# Altium integrated library NSC Switcher.IntLib: 867 symbols (part 11 of 21)
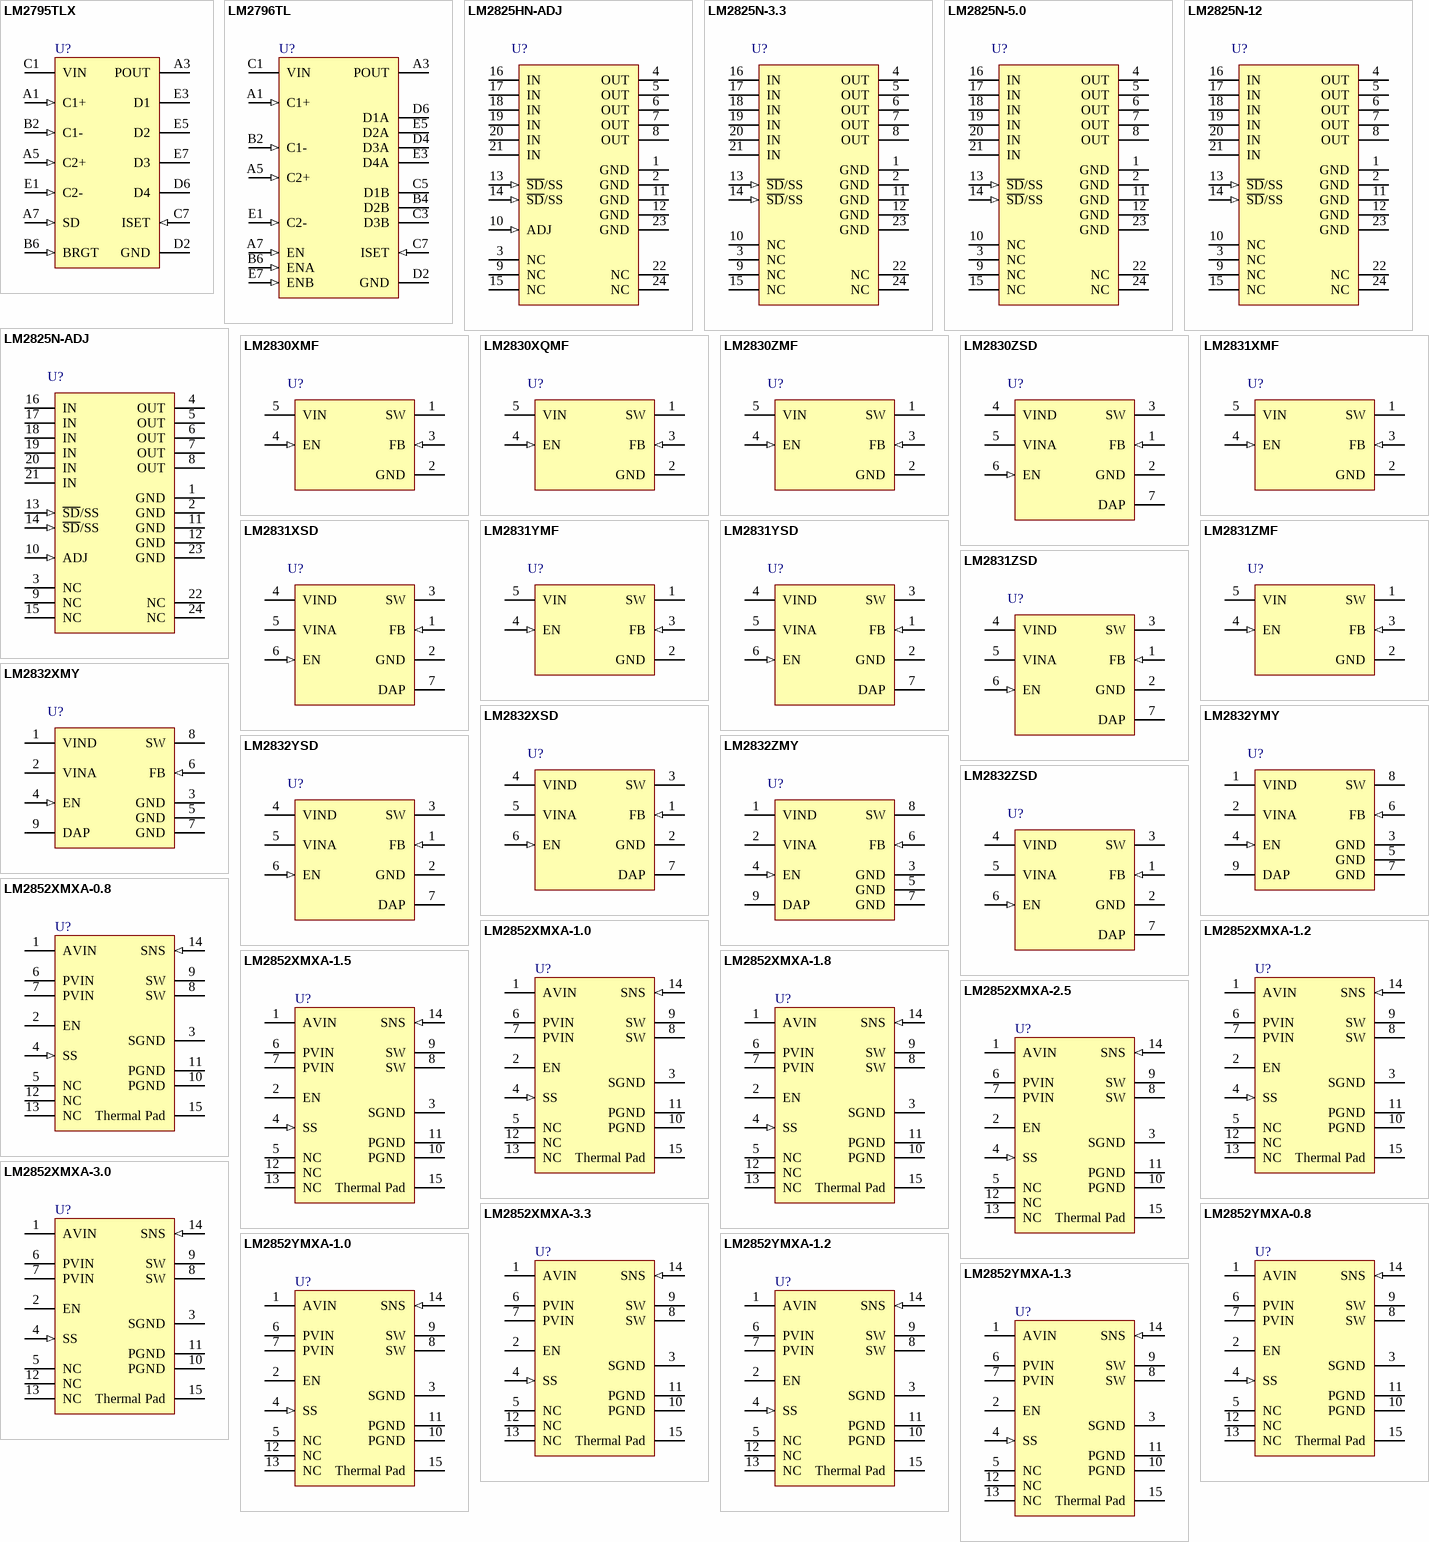
[diagram p36: symbols LM2795TLX to LM2852YMXA-1.3]

## LM2831XSD
designator U?
High Frequency 1.5A Load - Step-Down DC-DC Regulator; PartNumber: LM2831XSD; Manufacturer: National Semiconductor; CompType: Switcher; PackageTopMarking: ZXYTT*L193B; Published: 4-Dec-2008; PackageVersion: revA, Jul-2003; PackageReference: SDE06A; Publisher: Altium Limited; PackageDescription: LLP, Plastic, Dual, 3 x 3 x 0.8mm Body, 6 Lead, 0.95mm Pitch, No Pullback; RoHS: Y; PinCount: 6; DigiKeyPartNumber: LM2831XSDCT-ND; ComponentLink1Description: LM2831 Datasheet; ComponentLink1URL: http://www.national.com/ds/LM/LM2831.pdf; ComponentLink2Description: LM2831 Web Page; ComponentLink2URL: http://www.national.com/pf/LM/LM2831.html; ComponentLink3Description: SDE06A Package Page; ComponentLink3URL: http://www.national.com/packaging/folders/sde06a.html
footprint SDE06A_full (SON, 6-Leads, Body 3x3 mm, Pitch 0.95mm, Full Paste, NSC Recommended)
footprint SDE06A_quad (SON, 6-Leads, Body 3x3 mm, Pitch 0.95mm, Quad Paste, NSC Recommended)
pins: 1 FB (in), 2 GND (power), 3 SW (power), 4 VIND (power), 5 VINA (power), 6 EN (in), 7 DAP

## LM2831YMF
designator U?
High Frequency 1.5A Load - Step-Down DC-DC Regulator; PartNumber: LM2831YMF; Manufacturer: National Semiconductor; CompType: Switcher; PackageTopMarking: SKZB*XTT; Published: 4-Dec-2008; PackageVersion: revD, Aug-2008; PackageReference: MF05A; Publisher: Altium Limited; PackageDescription: Molded SOT-23, .115 x .063 x .040 in Body, 5 Lead, .0375 in Pitch; RoHS: Y; PinCount: 5; DigiKeyPartNumber: LM2831YMFCT-ND; Code_IPC: SOT23-5; ComponentLink1Description: LM2831 Datasheet; ComponentLink1URL: http://www.national.com/ds/LM/LM2831.pdf; ComponentLink2Description: LM2831 Web Page; ComponentLink2URL: http://www.national.com/pf/LM/LM2831.html; ComponentLink3Description: MF05A Package Page; ComponentLink3URL: http://www.national.com/packaging/folders/mf05a.html
footprint MF05A_N (SOT23, 5-Leads, Body 2.9x1.6mm, Pitch 0.95mm, Lead Span 2.8mm, IPC Medium Density)
footprint MF05A_L (SOT23, 5-Leads, Body 2.9x1.6mm, Pitch 0.95mm, Lead Span 2.8mm, IPC High Density)
footprint MF05A_M (SOT23, 5-Leads, Body 2.9x1.6mm, Pitch 0.95mm, Lead Span 2.8mm, IPC Low Density)
pins: 1 SW (power), 2 GND (power), 3 FB (in), 4 EN (in), 5 VIN (power)

## LM2831YSD
designator U?
High Frequency 1.5A Load - Step-Down DC-DC Regulator; PartNumber: LM2831YSD; Manufacturer: National Semiconductor; CompType: Switcher; PackageTopMarking: ZXYTT*L194B; Published: 4-Dec-2008; PackageVersion: revA, Jul-2003; PackageReference: SDE06A; Publisher: Altium Limited; PackageDescription: LLP, Plastic, Dual, 3 x 3 x 0.8mm Body, 6 Lead, 0.95mm Pitch, No Pullback; RoHS: Y; PinCount: 6; DigiKeyPartNumber: LM2831YSDCT-ND; ComponentLink1Description: LM2831 Datasheet; ComponentLink1URL: http://www.national.com/ds/LM/LM2831.pdf; ComponentLink2Description: LM2831 Web Page; ComponentLink2URL: http://www.national.com/pf/LM/LM2831.html; ComponentLink3Description: SDE06A Package Page; ComponentLink3URL: http://www.national.com/packaging/folders/sde06a.html
footprint SDE06A_full (SON, 6-Leads, Body 3x3 mm, Pitch 0.95mm, Full Paste, NSC Recommended)
footprint SDE06A_quad (SON, 6-Leads, Body 3x3 mm, Pitch 0.95mm, Quad Paste, NSC Recommended)
pins: 1 FB (in), 2 GND (power), 3 SW (power), 4 VIND (power), 5 VINA (power), 6 EN (in), 7 DAP

## LM2831ZMF
designator U?
High Frequency 1.5A Load - Step-Down DC-DC Regulator; PartNumber: LM2831ZMF; Manufacturer: National Semiconductor; CompType: Switcher; PackageTopMarking: SLAB*XTT; Published: 4-Dec-2008; PackageVersion: revD, Aug-2008; PackageReference: MF05A; Publisher: Altium Limited; PackageDescription: Molded SOT-23, .115 x .063 x .040 in Body, 5 Lead, .0375 in Pitch; RoHS: Y; PinCount: 5; DigiKeyPartNumber: LM2831ZMFCT-ND; Code_IPC: SOT23-5; ComponentLink1Description: LM2831 Datasheet; ComponentLink1URL: http://www.national.com/ds/LM/LM2831.pdf; ComponentLink2Description: LM2831 Web Page; ComponentLink2URL: http://www.national.com/pf/LM/LM2831.html; ComponentLink3Description: MF05A Package Page; ComponentLink3URL: http://www.national.com/packaging/folders/mf05a.html
footprint MF05A_N (SOT23, 5-Leads, Body 2.9x1.6mm, Pitch 0.95mm, Lead Span 2.8mm, IPC Medium Density)
footprint MF05A_L (SOT23, 5-Leads, Body 2.9x1.6mm, Pitch 0.95mm, Lead Span 2.8mm, IPC High Density)
footprint MF05A_M (SOT23, 5-Leads, Body 2.9x1.6mm, Pitch 0.95mm, Lead Span 2.8mm, IPC Low Density)
pins: 1 SW (power), 2 GND (power), 3 FB (in), 4 EN (in), 5 VIN (power)

## LM2831ZSD
designator U?
High Frequency 1.5A Load - Step-Down DC-DC Regulator; PartNumber: LM2831ZSD; Manufacturer: National Semiconductor; CompType: Switcher; PackageTopMarking: ZXYTT*L195B; Published: 4-Dec-2008; PackageVersion: revA, Jul-2003; PackageReference: SDE06A; Publisher: Altium Limited; PackageDescription: LLP, Plastic, Dual, 3 x 3 x 0.8mm Body, 6 Lead, 0.95mm Pitch, No Pullback; RoHS: Y; PinCount: 6; DigiKeyPartNumber: LM2831ZSDCT-ND; ComponentLink1Description: LM2831 Datasheet; ComponentLink1URL: http://www.national.com/ds/LM/LM2831.pdf; ComponentLink2Description: LM2831 Web Page; ComponentLink2URL: http://www.national.com/pf/LM/LM2831.html; ComponentLink3Description: SDE06A Package Page; ComponentLink3URL: http://www.national.com/packaging/folders/sde06a.html
footprint SDE06A_full (SON, 6-Leads, Body 3x3 mm, Pitch 0.95mm, Full Paste, NSC Recommended)
footprint SDE06A_quad (SON, 6-Leads, Body 3x3 mm, Pitch 0.95mm, Quad Paste, NSC Recommended)
pins: 1 FB (in), 2 GND (power), 3 SW (power), 4 VIND (power), 5 VINA (power), 6 EN (in), 7 DAP

## LM2832XMY
designator U?
High Frequency 2.0A Load - Step-Down DC-DC Regulator; PartNumber: LM2832XMY; Manufacturer: National Semiconductor; CompType: Switcher; PackageTopMarking: ZXTT*SLBB; Published: 4-Dec-2008; PackageVersion: revA, Nov-2003; PackageReference: MUY08A; Publisher: Altium Limited; PackageDescription: Molded Mini-SO, Exposed Pad, .118 x .118 x .034in Body, 8 Lead, .0256in Pitch; RoHS: Y; PinCount: 8; DigiKeyPartNumber: LM2832XMYCT-ND; Code_JEDEC: MO-187-AA; ComponentLink1Description: LM2832 Datasheet; ComponentLink1URL: http://www.national.com/ds/LM/LM2832.pdf; ComponentLink2Description: LM2832 Web Page; ComponentLink2URL: http://www.national.com/pf/LM/LM2832.html; ComponentLink3Description: MUY08A Package Page; ComponentLink3URL: http://www.national.com/packaging/folders/muy08a.html
footprint MUY08A_N (TSOP, 8-Leads, Body 3x3mm, Pitch 0.65mm, Exposed Pad, IPC Medium Density)
footprint MUY08A_L (TSOP, 8-Leads, Body 3x3mm, Pitch 0.65mm, Exposed Pad, IPC High Density)
footprint MUY08A_M (TSOP, 8-Leads, Body 3x3mm, Pitch 0.65mm, Exposed Pad, IPC Low Density)
pins: 1 VIND (power), 2 VINA (power), 3 GND (power), 4 EN (in), 5 GND (power), 6 FB (in), 7 GND (power), 8 SW (power), 9 DAP

## LM2832XSD
designator U?
High Frequency 2.0A Load - Step-Down DC-DC Regulator; PartNumber: LM2832XSD; Manufacturer: National Semiconductor; CompType: Switcher; PackageTopMarking: ZXYTT*L196B; Published: 4-Dec-2008; PackageVersion: revA, Jul-2003; PackageReference: SDE06A; Publisher: Altium Limited; PackageDescription: LLP, Plastic, Dual, 3 x 3 x 0.8mm Body, 6 Lead, 0.95mm Pitch, No Pullback; RoHS: Y; PinCount: 6; DigiKeyPartNumber: LM2832XSDCT-ND; ComponentLink1Description: LM2832 Datasheet; ComponentLink1URL: http://www.national.com/ds/LM/LM2832.pdf; ComponentLink2Description: LM2832 Web Page; ComponentLink2URL: http://www.national.com/pf/LM/LM2832.html; ComponentLink3Description: SDE06A Package Page; ComponentLink3URL: http://www.national.com/packaging/folders/sde06a.html
footprint SDE06A_full (SON, 6-Leads, Body 3x3 mm, Pitch 0.95mm, Full Paste, NSC Recommended)
footprint SDE06A_quad (SON, 6-Leads, Body 3x3 mm, Pitch 0.95mm, Quad Paste, NSC Recommended)
pins: 1 FB (in), 2 GND (power), 3 SW (power), 4 VIND (power), 5 VINA (power), 6 EN (in), 7 DAP

## LM2832YMY
designator U?
High Frequency 2.0A Load - Step-Down DC-DC Regulator; PartNumber: LM2832YMY; Manufacturer: National Semiconductor; CompType: Switcher; PackageTopMarking: ZXTT*SLCB; Published: 4-Dec-2008; PackageVersion: revA, Nov-2003; PackageReference: MUY08A; Publisher: Altium Limited; PackageDescription: Molded Mini-SO, Exposed Pad, .118 x .118 x .034in Body, 8 Lead, .0256in Pitch; RoHS: Y; PinCount: 8; DigiKeyPartNumber: LM2832YMYCT-ND; Code_JEDEC: MO-187-AA; ComponentLink1Description: LM2832 Datasheet; ComponentLink1URL: http://www.national.com/ds/LM/LM2832.pdf; ComponentLink2Description: LM2832 Web Page; ComponentLink2URL: http://www.national.com/pf/LM/LM2832.html; ComponentLink3Description: MUY08A Package Page; ComponentLink3URL: http://www.national.com/packaging/folders/muy08a.html
footprint MUY08A_N (TSOP, 8-Leads, Body 3x3mm, Pitch 0.65mm, Exposed Pad, IPC Medium Density)
footprint MUY08A_L (TSOP, 8-Leads, Body 3x3mm, Pitch 0.65mm, Exposed Pad, IPC High Density)
footprint MUY08A_M (TSOP, 8-Leads, Body 3x3mm, Pitch 0.65mm, Exposed Pad, IPC Low Density)
pins: 1 VIND (power), 2 VINA (power), 3 GND (power), 4 EN (in), 5 GND (power), 6 FB (in), 7 GND (power), 8 SW (power), 9 DAP

## LM2832YSD
designator U?
High Frequency 2.0A Load - Step-Down DC-DC Regulator; PartNumber: LM2832YSD; Manufacturer: National Semiconductor; CompType: Switcher; PackageTopMarking: ZXYTT*L197B; Published: 4-Dec-2008; PackageVersion: revA, Jul-2003; PackageReference: SDE06A; Publisher: Altium Limited; PackageDescription: LLP, Plastic, Dual, 3 x 3 x 0.8mm Body, 6 Lead, 0.95mm Pitch, No Pullback; RoHS: Y; PinCount: 6; DigiKeyPartNumber: LM2832YSDCT-ND; ComponentLink1Description: LM2832 Datasheet; ComponentLink1URL: http://www.national.com/ds/LM/LM2832.pdf; ComponentLink2Description: LM2832 Web Page; ComponentLink2URL: http://www.national.com/pf/LM/LM2832.html; ComponentLink3Description: SDE06A Package Page; ComponentLink3URL: http://www.national.com/packaging/folders/sde06a.html
footprint SDE06A_full (SON, 6-Leads, Body 3x3 mm, Pitch 0.95mm, Full Paste, NSC Recommended)
footprint SDE06A_quad (SON, 6-Leads, Body 3x3 mm, Pitch 0.95mm, Quad Paste, NSC Recommended)
pins: 1 FB (in), 2 GND (power), 3 SW (power), 4 VIND (power), 5 VINA (power), 6 EN (in), 7 DAP

## LM2832ZMY
designator U?
High Frequency 2.0A Load - Step-Down DC-DC Regulator; PartNumber: LM2832ZMY; Manufacturer: National Semiconductor; CompType: Switcher; PackageTopMarking: ZXTT*SLDB; Published: 4-Dec-2008; PackageVersion: revA, Nov-2003; PackageReference: MUY08A; Publisher: Altium Limited; PackageDescription: Molded Mini-SO, Exposed Pad, .118 x .118 x .034in Body, 8 Lead, .0256in Pitch; RoHS: Y; PinCount: 8; DigiKeyPartNumber: LM2832ZMYCT-ND; Code_JEDEC: MO-187-AA; ComponentLink1Description: LM2832 Datasheet; ComponentLink1URL: http://www.national.com/ds/LM/LM2832.pdf; ComponentLink2Description: LM2832 Web Page; ComponentLink2URL: http://www.national.com/pf/LM/LM2832.html; ComponentLink3Description: MUY08A Package Page; ComponentLink3URL: http://www.national.com/packaging/folders/muy08a.html
footprint MUY08A_N (TSOP, 8-Leads, Body 3x3mm, Pitch 0.65mm, Exposed Pad, IPC Medium Density)
footprint MUY08A_L (TSOP, 8-Leads, Body 3x3mm, Pitch 0.65mm, Exposed Pad, IPC High Density)
footprint MUY08A_M (TSOP, 8-Leads, Body 3x3mm, Pitch 0.65mm, Exposed Pad, IPC Low Density)
pins: 1 VIND (power), 2 VINA (power), 3 GND (power), 4 EN (in), 5 GND (power), 6 FB (in), 7 GND (power), 8 SW (power), 9 DAP

## LM2832ZSD
designator U?
High Frequency 2.0A Load - Step-Down DC-DC Regulator; PartNumber: LM2832ZSD; Manufacturer: National Semiconductor; CompType: Switcher; PackageTopMarking: ZXYTT*L198B; Published: 4-Dec-2008; PackageVersion: revA, Jul-2003; PackageReference: SDE06A; Publisher: Altium Limited; PackageDescription: LLP, Plastic, Dual, 3 x 3 x 0.8mm Body, 6 Lead, 0.95mm Pitch, No Pullback; RoHS: Y; PinCount: 6; DigiKeyPartNumber: LM2832ZSDCT-ND; ComponentLink1Description: LM2832 Datasheet; ComponentLink1URL: http://www.national.com/ds/LM/LM2832.pdf; ComponentLink2Description: LM2832 Web Page; ComponentLink2URL: http://www.national.com/pf/LM/LM2832.html; ComponentLink3Description: SDE06A Package Page; ComponentLink3URL: http://www.national.com/packaging/folders/sde06a.html
footprint SDE06A_full (SON, 6-Leads, Body 3x3 mm, Pitch 0.95mm, Full Paste, NSC Recommended)
footprint SDE06A_quad (SON, 6-Leads, Body 3x3 mm, Pitch 0.95mm, Quad Paste, NSC Recommended)
pins: 1 FB (in), 2 GND (power), 3 SW (power), 4 VIND (power), 5 VINA (power), 6 EN (in), 7 DAP

## LM2852XMXA-0.8
designator U?
2A 500/1500kHz Synchronous SIMPLE SWITCHER; Buck Regulator; PartNumber: LM2852XMXA-0.8; Manufacturer: National Semiconductor; PackageTopMarking: NSUZXYTT*2852X*0.8; Published: 4-Dec-2008; PackageVersion: revA, Feb-2003; PackageReference: MXA14A; Publisher: Altium Limited; PackageDescription: Molded TSSOP, JEDEC, Exposed Pad, 5.0 x 4.4 x 0.9mm Body, 14 Lead, 0.65mm Pitch; CompType: Switcher; RoHS: Y; PinCount: 14; DigiKeyPartNumber: LM2852XMXA-0.8-ND; Code_JEDEC: MO-153-ABT-1; ComponentLink1Description: LM2852 Datasheet; ComponentLink1URL: http://www.national.com/ds/LM/LM2852.pdf; ComponentLink2Description: LM2852 Web Page; ComponentLink2URL: http://www.national.com/pf/LM/LM2852.html; ComponentLink3Description: MXA14A Package Page; ComponentLink3URL: http://www.national.com/packaging/folders/mxa14a.html
footprint MXA14A_N (TSOP, 14-Leads, Body 5x4.4mm, Pitch 0.65mm, Exposed Pad, IPC Medium Density)
footprint MXA14A_L (TSOP, 14-Leads, Body 5x4.4mm, Pitch 0.65mm, Exposed Pad, IPC High Density)
footprint MXA14A_M (TSOP, 14-Leads, Body 5x4.4mm, Pitch 0.65mm, Exposed Pad, IPC Low Density)
pins: 1 AVIN (power), 2 EN, 3 SGND (power), 4 SS (in), 5 NC, 6 PVIN (power), 7 PVIN (power), 8 SW (power), 9 SW (power), 10 PGND (power), 11 PGND (power), 12 NC, 13 NC, 14 SNS (in), 15 Thermal Pad (power)

## LM2852XMXA-1.0
designator U?
2A 500/1500kHz Synchronous SIMPLE SWITCHER; Buck Regulator; PartNumber: LM2852XMXA-1.0; Manufacturer: National Semiconductor; PackageTopMarking: NSUZXYTT*2852X*1.0; Published: 4-Dec-2008; PackageVersion: revA, Feb-2003; PackageReference: MXA14A; Publisher: Altium Limited; PackageDescription: Molded TSSOP, JEDEC, Exposed Pad, 5.0 x 4.4 x 0.9mm Body, 14 Lead, 0.65mm Pitch; CompType: Switcher; RoHS: Y; PinCount: 14; DigiKeyPartNumber: LM2852XMXA-1.0-ND; Code_JEDEC: MO-153-ABT-1; ComponentLink1Description: LM2852 Datasheet; ComponentLink1URL: http://www.national.com/ds/LM/LM2852.pdf; ComponentLink2Description: LM2852 Web Page; ComponentLink2URL: http://www.national.com/pf/LM/LM2852.html; ComponentLink3Description: MXA14A Package Page; ComponentLink3URL: http://www.national.com/packaging/folders/mxa14a.html
footprint MXA14A_N (TSOP, 14-Leads, Body 5x4.4mm, Pitch 0.65mm, Exposed Pad, IPC Medium Density)
footprint MXA14A_L (TSOP, 14-Leads, Body 5x4.4mm, Pitch 0.65mm, Exposed Pad, IPC High Density)
footprint MXA14A_M (TSOP, 14-Leads, Body 5x4.4mm, Pitch 0.65mm, Exposed Pad, IPC Low Density)
pins: 1 AVIN (power), 2 EN, 3 SGND (power), 4 SS (in), 5 NC, 6 PVIN (power), 7 PVIN (power), 8 SW (power), 9 SW (power), 10 PGND (power), 11 PGND (power), 12 NC, 13 NC, 14 SNS (in), 15 Thermal Pad (power)

## LM2852XMXA-1.2
designator U?
2A 500/1500kHz Synchronous SIMPLE SWITCHER; Buck Regulator; PartNumber: LM2852XMXA-1.2; Manufacturer: National Semiconductor; PackageTopMarking: NSUZXYTT*2852X*1.2; Published: 4-Dec-2008; PackageVersion: revA, Feb-2003; PackageReference: MXA14A; Publisher: Altium Limited; PackageDescription: Molded TSSOP, JEDEC, Exposed Pad, 5.0 x 4.4 x 0.9mm Body, 14 Lead, 0.65mm Pitch; CompType: Switcher; RoHS: Y; PinCount: 14; DigiKeyPartNumber: LM2852XMXA-1.2-ND; Code_JEDEC: MO-153-ABT-1; ComponentLink1Description: LM2852 Datasheet; ComponentLink1URL: http://www.national.com/ds/LM/LM2852.pdf; ComponentLink2Description: LM2852 Web Page; ComponentLink2URL: http://www.national.com/pf/LM/LM2852.html; ComponentLink3Description: MXA14A Package Page; ComponentLink3URL: http://www.national.com/packaging/folders/mxa14a.html
footprint MXA14A_N (TSOP, 14-Leads, Body 5x4.4mm, Pitch 0.65mm, Exposed Pad, IPC Medium Density)
footprint MXA14A_L (TSOP, 14-Leads, Body 5x4.4mm, Pitch 0.65mm, Exposed Pad, IPC High Density)
footprint MXA14A_M (TSOP, 14-Leads, Body 5x4.4mm, Pitch 0.65mm, Exposed Pad, IPC Low Density)
pins: 1 AVIN (power), 2 EN, 3 SGND (power), 4 SS (in), 5 NC, 6 PVIN (power), 7 PVIN (power), 8 SW (power), 9 SW (power), 10 PGND (power), 11 PGND (power), 12 NC, 13 NC, 14 SNS (in), 15 Thermal Pad (power)

## LM2852XMXA-1.5
designator U?
2A 500/1500kHz Synchronous SIMPLE SWITCHER; Buck Regulator; PartNumber: LM2852XMXA-1.5; Manufacturer: National Semiconductor; PackageTopMarking: NSUZXYTT*2852X*1.5; Published: 4-Dec-2008; PackageVersion: revA, Feb-2003; PackageReference: MXA14A; Publisher: Altium Limited; PackageDescription: Molded TSSOP, JEDEC, Exposed Pad, 5.0 x 4.4 x 0.9mm Body, 14 Lead, 0.65mm Pitch; CompType: Switcher; RoHS: O; PinCount: 14; DigiKeyPartNumber: LM2852XMXA-1.5-ND; Code_JEDEC: MO-153-ABT-1; ComponentLink1Description: LM2852 Datasheet; ComponentLink1URL: http://www.national.com/ds/LM/LM2852.pdf; ComponentLink2Description: LM2852 Web Page; ComponentLink2URL: http://www.national.com/pf/LM/LM2852.html; ComponentLink3Description: MXA14A Package Page; ComponentLink3URL: http://www.national.com/packaging/folders/mxa14a.html
footprint MXA14A_N (TSOP, 14-Leads, Body 5x4.4mm, Pitch 0.65mm, Exposed Pad, IPC Medium Density)
footprint MXA14A_L (TSOP, 14-Leads, Body 5x4.4mm, Pitch 0.65mm, Exposed Pad, IPC High Density)
footprint MXA14A_M (TSOP, 14-Leads, Body 5x4.4mm, Pitch 0.65mm, Exposed Pad, IPC Low Density)
pins: 1 AVIN (power), 2 EN, 3 SGND (power), 4 SS (in), 5 NC, 6 PVIN (power), 7 PVIN (power), 8 SW (power), 9 SW (power), 10 PGND (power), 11 PGND (power), 12 NC, 13 NC, 14 SNS (in), 15 Thermal Pad (power)

## LM2852XMXA-1.8
designator U?
2A 500/1500kHz Synchronous SIMPLE SWITCHER; Buck Regulator; PartNumber: LM2852XMXA-1.8; Manufacturer: National Semiconductor; PackageTopMarking: NSUZXYTT*2852X*1.8; Published: 4-Dec-2008; PackageVersion: revA, Feb-2003; PackageReference: MXA14A; Publisher: Altium Limited; PackageDescription: Molded TSSOP, JEDEC, Exposed Pad, 5.0 x 4.4 x 0.9mm Body, 14 Lead, 0.65mm Pitch; CompType: Switcher; RoHS: Y; PinCount: 14; DigiKeyPartNumber: LM2852XMXA-1.8-ND; Code_JEDEC: MO-153-ABT-1; ComponentLink1Description: LM2852 Datasheet; ComponentLink1URL: http://www.national.com/ds/LM/LM2852.pdf; ComponentLink2Description: LM2852 Web Page; ComponentLink2URL: http://www.national.com/pf/LM/LM2852.html; ComponentLink3Description: MXA14A Package Page; ComponentLink3URL: http://www.national.com/packaging/folders/mxa14a.html
footprint MXA14A_N (TSOP, 14-Leads, Body 5x4.4mm, Pitch 0.65mm, Exposed Pad, IPC Medium Density)
footprint MXA14A_L (TSOP, 14-Leads, Body 5x4.4mm, Pitch 0.65mm, Exposed Pad, IPC High Density)
footprint MXA14A_M (TSOP, 14-Leads, Body 5x4.4mm, Pitch 0.65mm, Exposed Pad, IPC Low Density)
pins: 1 AVIN (power), 2 EN, 3 SGND (power), 4 SS (in), 5 NC, 6 PVIN (power), 7 PVIN (power), 8 SW (power), 9 SW (power), 10 PGND (power), 11 PGND (power), 12 NC, 13 NC, 14 SNS (in), 15 Thermal Pad (power)

## LM2852XMXA-2.5
designator U?
2A 500/1500kHz Synchronous SIMPLE SWITCHER; Buck Regulator; PartNumber: LM2852XMXA-2.5; Manufacturer: National Semiconductor; PackageTopMarking: NSUZXYTT*2852X*2.5; Published: 4-Dec-2008; PackageVersion: revA, Feb-2003; PackageReference: MXA14A; Publisher: Altium Limited; PackageDescription: Molded TSSOP, JEDEC, Exposed Pad, 5.0 x 4.4 x 0.9mm Body, 14 Lead, 0.65mm Pitch; CompType: Switcher; RoHS: O; PinCount: 14; DigiKeyPartNumber: LM2852XMXA-2.5-ND; Code_JEDEC: MO-153-ABT-1; ComponentLink1Description: LM2852 Datasheet; ComponentLink1URL: http://www.national.com/ds/LM/LM2852.pdf; ComponentLink2Description: LM2852 Web Page; ComponentLink2URL: http://www.national.com/pf/LM/LM2852.html; ComponentLink3Description: MXA14A Package Page; ComponentLink3URL: http://www.national.com/packaging/folders/mxa14a.html
footprint MXA14A_N (TSOP, 14-Leads, Body 5x4.4mm, Pitch 0.65mm, Exposed Pad, IPC Medium Density)
footprint MXA14A_L (TSOP, 14-Leads, Body 5x4.4mm, Pitch 0.65mm, Exposed Pad, IPC High Density)
footprint MXA14A_M (TSOP, 14-Leads, Body 5x4.4mm, Pitch 0.65mm, Exposed Pad, IPC Low Density)
pins: 1 AVIN (power), 2 EN, 3 SGND (power), 4 SS (in), 5 NC, 6 PVIN (power), 7 PVIN (power), 8 SW (power), 9 SW (power), 10 PGND (power), 11 PGND (power), 12 NC, 13 NC, 14 SNS (in), 15 Thermal Pad (power)

## LM2852XMXA-3.0
designator U?
2A 500/1500kHz Synchronous SIMPLE SWITCHER; Buck Regulator; PartNumber: LM2852XMXA-3.0; Manufacturer: National Semiconductor; PackageTopMarking: NSUZXYTT*2852X*3.0; Published: 4-Dec-2008; PackageVersion: revA, Feb-2003; PackageReference: MXA14A; Publisher: Altium Limited; PackageDescription: Molded TSSOP, JEDEC, Exposed Pad, 5.0 x 4.4 x 0.9mm Body, 14 Lead, 0.65mm Pitch; CompType: Switcher; RoHS: Y; PinCount: 14; DigiKeyPartNumber: LM2852XMXA-3.0-ND; Code_JEDEC: MO-153-ABT-1; ComponentLink1Description: LM2852 Datasheet; ComponentLink1URL: http://www.national.com/ds/LM/LM2852.pdf; ComponentLink2Description: LM2852 Web Page; ComponentLink2URL: http://www.national.com/pf/LM/LM2852.html; ComponentLink3Description: MXA14A Package Page; ComponentLink3URL: http://www.national.com/packaging/folders/mxa14a.html
footprint MXA14A_N (TSOP, 14-Leads, Body 5x4.4mm, Pitch 0.65mm, Exposed Pad, IPC Medium Density)
footprint MXA14A_L (TSOP, 14-Leads, Body 5x4.4mm, Pitch 0.65mm, Exposed Pad, IPC High Density)
footprint MXA14A_M (TSOP, 14-Leads, Body 5x4.4mm, Pitch 0.65mm, Exposed Pad, IPC Low Density)
pins: 1 AVIN (power), 2 EN, 3 SGND (power), 4 SS (in), 5 NC, 6 PVIN (power), 7 PVIN (power), 8 SW (power), 9 SW (power), 10 PGND (power), 11 PGND (power), 12 NC, 13 NC, 14 SNS (in), 15 Thermal Pad (power)

## LM2852XMXA-3.3
designator U?
2A 500/1500kHz Synchronous SIMPLE SWITCHER; Buck Regulator; PartNumber: LM2852XMXA-3.3; Manufacturer: National Semiconductor; PackageTopMarking: NSUZXYTT*2852X*3.3; Published: 4-Dec-2008; PackageVersion: revA, Feb-2003; PackageReference: MXA14A; Publisher: Altium Limited; PackageDescription: Molded TSSOP, JEDEC, Exposed Pad, 5.0 x 4.4 x 0.9mm Body, 14 Lead, 0.65mm Pitch; CompType: Switcher; RoHS: Y; PinCount: 14; DigiKeyPartNumber: LM2852XMXA-3.3-ND; Code_JEDEC: MO-153-ABT-1; ComponentLink1Description: LM2852 Datasheet; ComponentLink1URL: http://www.national.com/ds/LM/LM2852.pdf; ComponentLink2Description: LM2852 Web Page; ComponentLink2URL: http://www.national.com/pf/LM/LM2852.html; ComponentLink3Description: MXA14A Package Page; ComponentLink3URL: http://www.national.com/packaging/folders/mxa14a.html
footprint MXA14A_N (TSOP, 14-Leads, Body 5x4.4mm, Pitch 0.65mm, Exposed Pad, IPC Medium Density)
footprint MXA14A_L (TSOP, 14-Leads, Body 5x4.4mm, Pitch 0.65mm, Exposed Pad, IPC High Density)
footprint MXA14A_M (TSOP, 14-Leads, Body 5x4.4mm, Pitch 0.65mm, Exposed Pad, IPC Low Density)
pins: 1 AVIN (power), 2 EN, 3 SGND (power), 4 SS (in), 5 NC, 6 PVIN (power), 7 PVIN (power), 8 SW (power), 9 SW (power), 10 PGND (power), 11 PGND (power), 12 NC, 13 NC, 14 SNS (in), 15 Thermal Pad (power)

## LM2852YMXA-0.8
designator U?
2A 500/1500kHz Synchronous SIMPLE SWITCHER; Buck Regulator; PartNumber: LM2852YMXA-0.8; Manufacturer: National Semiconductor; PackageTopMarking: NSUZXYTT*2852Y*-0.8; Published: 4-Dec-2008; PackageVersion: revA, Feb-2003; PackageReference: MXA14A; Publisher: Altium Limited; PackageDescription: Molded TSSOP, JEDEC, Exposed Pad, 5.0 x 4.4 x 0.9mm Body, 14 Lead, 0.65mm Pitch; CompType: Switcher; RoHS: Y; PinCount: 14; DigiKeyPartNumber: LM2852YMXA-0.8-ND; Code_JEDEC: MO-153-ABT-1; ComponentLink1Description: LM2852 Datasheet; ComponentLink1URL: http://www.national.com/ds/LM/LM2852.pdf; ComponentLink2Description: LM2852 Web Page; ComponentLink2URL: http://www.national.com/pf/LM/LM2852.html; ComponentLink3Description: MXA14A Package Page; ComponentLink3URL: http://www.national.com/packaging/folders/mxa14a.html
footprint MXA14A_N (TSOP, 14-Leads, Body 5x4.4mm, Pitch 0.65mm, Exposed Pad, IPC Medium Density)
footprint MXA14A_L (TSOP, 14-Leads, Body 5x4.4mm, Pitch 0.65mm, Exposed Pad, IPC High Density)
footprint MXA14A_M (TSOP, 14-Leads, Body 5x4.4mm, Pitch 0.65mm, Exposed Pad, IPC Low Density)
pins: 1 AVIN (power), 2 EN, 3 SGND (power), 4 SS (in), 5 NC, 6 PVIN (power), 7 PVIN (power), 8 SW (power), 9 SW (power), 10 PGND (power), 11 PGND (power), 12 NC, 13 NC, 14 SNS (in), 15 Thermal Pad (power)

## LM2852YMXA-1.0
designator U?
2A 500/1500kHz Synchronous SIMPLE SWITCHER; Buck Regulator; PartNumber: LM2852YMXA-1.0; Manufacturer: National Semiconductor; PackageTopMarking: NSUZXYTT*2852Y*-1.0; Published: 4-Dec-2008; PackageVersion: revA, Feb-2003; PackageReference: MXA14A; Publisher: Altium Limited; PackageDescription: Molded TSSOP, JEDEC, Exposed Pad, 5.0 x 4.4 x 0.9mm Body, 14 Lead, 0.65mm Pitch; CompType: Switcher; RoHS: Y; PinCount: 14; DigiKeyPartNumber: LM2852YMXA-1.0-ND; Code_JEDEC: MO-153-ABT-1; ComponentLink1Description: LM2852 Datasheet; ComponentLink1URL: http://www.national.com/ds/LM/LM2852.pdf; ComponentLink2Description: LM2852 Web Page; ComponentLink2URL: http://www.national.com/pf/LM/LM2852.html; ComponentLink3Description: MXA14A Package Page; ComponentLink3URL: http://www.national.com/packaging/folders/mxa14a.html
footprint MXA14A_N (TSOP, 14-Leads, Body 5x4.4mm, Pitch 0.65mm, Exposed Pad, IPC Medium Density)
footprint MXA14A_L (TSOP, 14-Leads, Body 5x4.4mm, Pitch 0.65mm, Exposed Pad, IPC High Density)
footprint MXA14A_M (TSOP, 14-Leads, Body 5x4.4mm, Pitch 0.65mm, Exposed Pad, IPC Low Density)
pins: 1 AVIN (power), 2 EN, 3 SGND (power), 4 SS (in), 5 NC, 6 PVIN (power), 7 PVIN (power), 8 SW (power), 9 SW (power), 10 PGND (power), 11 PGND (power), 12 NC, 13 NC, 14 SNS (in), 15 Thermal Pad (power)

## LM2852YMXA-1.2
designator U?
2A 500/1500kHz Synchronous SIMPLE SWITCHER; Buck Regulator; PartNumber: LM2852YMXA-1.2; Manufacturer: National Semiconductor; PackageTopMarking: NSUZXYTT*2852Y*-1.2; Published: 4-Dec-2008; PackageVersion: revA, Feb-2003; PackageReference: MXA14A; Publisher: Altium Limited; PackageDescription: Molded TSSOP, JEDEC, Exposed Pad, 5.0 x 4.4 x 0.9mm Body, 14 Lead, 0.65mm Pitch; CompType: Switcher; RoHS: Y; PinCount: 14; DigiKeyPartNumber: LM2852YMXA-1.2-ND; Code_JEDEC: MO-153-ABT-1; ComponentLink1Description: LM2852 Datasheet; ComponentLink1URL: http://www.national.com/ds/LM/LM2852.pdf; ComponentLink2Description: LM2852 Web Page; ComponentLink2URL: http://www.national.com/pf/LM/LM2852.html; ComponentLink3Description: MXA14A Package Page; ComponentLink3URL: http://www.national.com/packaging/folders/mxa14a.html
footprint MXA14A_N (TSOP, 14-Leads, Body 5x4.4mm, Pitch 0.65mm, Exposed Pad, IPC Medium Density)
footprint MXA14A_L (TSOP, 14-Leads, Body 5x4.4mm, Pitch 0.65mm, Exposed Pad, IPC High Density)
footprint MXA14A_M (TSOP, 14-Leads, Body 5x4.4mm, Pitch 0.65mm, Exposed Pad, IPC Low Density)
pins: 1 AVIN (power), 2 EN, 3 SGND (power), 4 SS (in), 5 NC, 6 PVIN (power), 7 PVIN (power), 8 SW (power), 9 SW (power), 10 PGND (power), 11 PGND (power), 12 NC, 13 NC, 14 SNS (in), 15 Thermal Pad (power)

## LM2852YMXA-1.3
designator U?
2A 500/1500kHz Synchronous SIMPLE SWITCHER; Buck Regulator; PartNumber: LM2852YMXA-1.3; Manufacturer: National Semiconductor; PackageTopMarking: NSUZXYTT*2852Y*1.3; Published: 4-Dec-2008; PackageVersion: revA, Feb-2003; PackageReference: MXA14A; Publisher: Altium Limited; PackageDescription: Molded TSSOP, JEDEC, Exposed Pad, 5.0 x 4.4 x 0.9mm Body, 14 Lead, 0.65mm Pitch; CompType: Switcher; RoHS: Y; PinCount: 14; DigiKeyPartNumber: LM2852YMXA-1.3-ND; Code_JEDEC: MO-153-ABT-1; ComponentLink1Description: LM2852 Datasheet; ComponentLink1URL: http://www.national.com/ds/LM/LM2852.pdf; ComponentLink2Description: LM2852 Web Page; ComponentLink2URL: http://www.national.com/pf/LM/LM2852.html; ComponentLink3Description: MXA14A Package Page; ComponentLink3URL: http://www.national.com/packaging/folders/mxa14a.html
footprint MXA14A_N (TSOP, 14-Leads, Body 5x4.4mm, Pitch 0.65mm, Exposed Pad, IPC Medium Density)
footprint MXA14A_L (TSOP, 14-Leads, Body 5x4.4mm, Pitch 0.65mm, Exposed Pad, IPC High Density)
footprint MXA14A_M (TSOP, 14-Leads, Body 5x4.4mm, Pitch 0.65mm, Exposed Pad, IPC Low Density)
pins: 1 AVIN (power), 2 EN, 3 SGND (power), 4 SS (in), 5 NC, 6 PVIN (power), 7 PVIN (power), 8 SW (power), 9 SW (power), 10 PGND (power), 11 PGND (power), 12 NC, 13 NC, 14 SNS (in), 15 Thermal Pad (power)

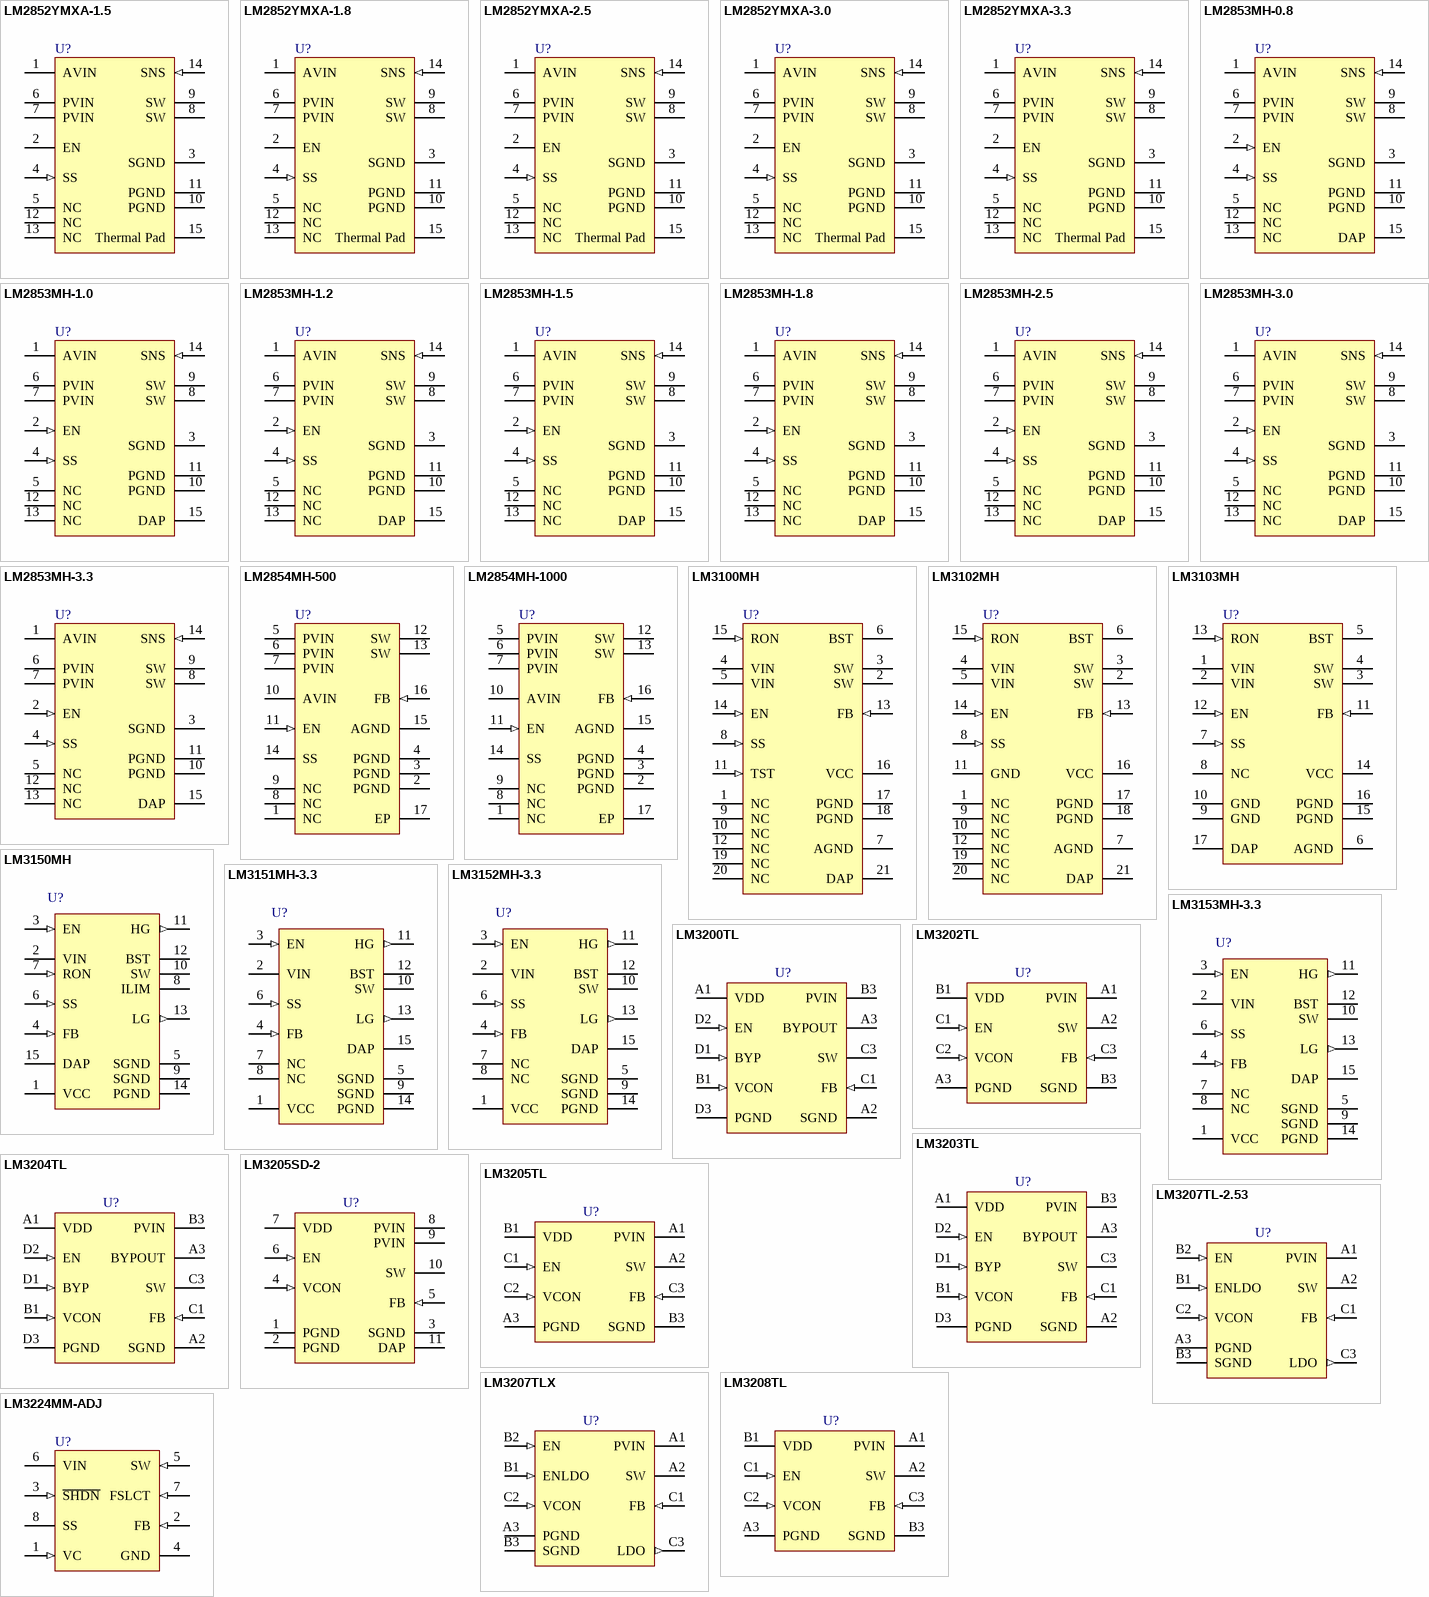
[diagram p13: symbols LM2852YMXA-1.5 to LM3224MM-ADJ]

## LM2852YMXA-1.5
designator U?
2A 500/1500kHz Synchronous SIMPLE SWITCHER; Buck Regulator; PartNumber: LM2852YMXA-1.5; Manufacturer: National Semiconductor; PackageTopMarking: NSUZXYTT*2852Y*-1.5; Published: 4-Dec-2008; PackageVersion: revA, Feb-2003; PackageReference: MXA14A; Publisher: Altium Limited; PackageDescription: Molded TSSOP, JEDEC, Exposed Pad, 5.0 x 4.4 x 0.9mm Body, 14 Lead, 0.65mm Pitch; CompType: Switcher; RoHS: Y; PinCount: 14; DigiKeyPartNumber: LM2852YMXA-1.5-ND; Code_JEDEC: MO-153-ABT-1; ComponentLink1Description: LM2852 Datasheet; ComponentLink1URL: http://www.national.com/ds/LM/LM2852.pdf; ComponentLink2Description: LM2852 Web Page; ComponentLink2URL: http://www.national.com/pf/LM/LM2852.html; ComponentLink3Description: MXA14A Package Page; ComponentLink3URL: http://www.national.com/packaging/folders/mxa14a.html
footprint MXA14A_N (TSOP, 14-Leads, Body 5x4.4mm, Pitch 0.65mm, Exposed Pad, IPC Medium Density)
footprint MXA14A_L (TSOP, 14-Leads, Body 5x4.4mm, Pitch 0.65mm, Exposed Pad, IPC High Density)
footprint MXA14A_M (TSOP, 14-Leads, Body 5x4.4mm, Pitch 0.65mm, Exposed Pad, IPC Low Density)
pins: 1 AVIN (power), 2 EN, 3 SGND (power), 4 SS (in), 5 NC, 6 PVIN (power), 7 PVIN (power), 8 SW (power), 9 SW (power), 10 PGND (power), 11 PGND (power), 12 NC, 13 NC, 14 SNS (in), 15 Thermal Pad (power)

## LM2852YMXA-1.8
designator U?
2A 500/1500kHz Synchronous SIMPLE SWITCHER; Buck Regulator; PartNumber: LM2852YMXA-1.8; Manufacturer: National Semiconductor; PackageTopMarking: NSUZXYTT*2852Y*-1.8; Published: 4-Dec-2008; PackageVersion: revA, Feb-2003; PackageReference: MXA14A; Publisher: Altium Limited; PackageDescription: Molded TSSOP, JEDEC, Exposed Pad, 5.0 x 4.4 x 0.9mm Body, 14 Lead, 0.65mm Pitch; CompType: Switcher; RoHS: Y; PinCount: 14; DigiKeyPartNumber: LM2852YMXA-1.8-ND; Code_JEDEC: MO-153-ABT-1; ComponentLink1Description: LM2852 Datasheet; ComponentLink1URL: http://www.national.com/ds/LM/LM2852.pdf; ComponentLink2Description: LM2852 Web Page; ComponentLink2URL: http://www.national.com/pf/LM/LM2852.html; ComponentLink3Description: MXA14A Package Page; ComponentLink3URL: http://www.national.com/packaging/folders/mxa14a.html
footprint MXA14A_N (TSOP, 14-Leads, Body 5x4.4mm, Pitch 0.65mm, Exposed Pad, IPC Medium Density)
footprint MXA14A_L (TSOP, 14-Leads, Body 5x4.4mm, Pitch 0.65mm, Exposed Pad, IPC High Density)
footprint MXA14A_M (TSOP, 14-Leads, Body 5x4.4mm, Pitch 0.65mm, Exposed Pad, IPC Low Density)
pins: 1 AVIN (power), 2 EN, 3 SGND (power), 4 SS (in), 5 NC, 6 PVIN (power), 7 PVIN (power), 8 SW (power), 9 SW (power), 10 PGND (power), 11 PGND (power), 12 NC, 13 NC, 14 SNS (in), 15 Thermal Pad (power)

## LM2852YMXA-2.5
designator U?
2A 500/1500kHz Synchronous SIMPLE SWITCHER; Buck Regulator; PartNumber: LM2852YMXA-2.5; Manufacturer: National Semiconductor; PackageTopMarking: NSUZXYTT*2852Y*-2.5; Published: 4-Dec-2008; PackageVersion: revA, Feb-2003; PackageReference: MXA14A; Publisher: Altium Limited; PackageDescription: Molded TSSOP, JEDEC, Exposed Pad, 5.0 x 4.4 x 0.9mm Body, 14 Lead, 0.65mm Pitch; CompType: Switcher; RoHS: Y; PinCount: 14; DigiKeyPartNumber: LM2852YMXA-2.5-ND; Code_JEDEC: MO-153-ABT-1; ComponentLink1Description: LM2852 Datasheet; ComponentLink1URL: http://www.national.com/ds/LM/LM2852.pdf; ComponentLink2Description: LM2852 Web Page; ComponentLink2URL: http://www.national.com/pf/LM/LM2852.html; ComponentLink3Description: MXA14A Package Page; ComponentLink3URL: http://www.national.com/packaging/folders/mxa14a.html
footprint MXA14A_N (TSOP, 14-Leads, Body 5x4.4mm, Pitch 0.65mm, Exposed Pad, IPC Medium Density)
footprint MXA14A_L (TSOP, 14-Leads, Body 5x4.4mm, Pitch 0.65mm, Exposed Pad, IPC High Density)
footprint MXA14A_M (TSOP, 14-Leads, Body 5x4.4mm, Pitch 0.65mm, Exposed Pad, IPC Low Density)
pins: 1 AVIN (power), 2 EN, 3 SGND (power), 4 SS (in), 5 NC, 6 PVIN (power), 7 PVIN (power), 8 SW (power), 9 SW (power), 10 PGND (power), 11 PGND (power), 12 NC, 13 NC, 14 SNS (in), 15 Thermal Pad (power)

## LM2852YMXA-3.0
designator U?
2A 500/1500kHz Synchronous SIMPLE SWITCHER; Buck Regulator; PartNumber: LM2852YMXA-3.0; Manufacturer: National Semiconductor; PackageTopMarking: NSUZXYTT*2852Y*3.0; Published: 4-Dec-2008; PackageVersion: revA, Feb-2003; PackageReference: MXA14A; Publisher: Altium Limited; PackageDescription: Molded TSSOP, JEDEC, Exposed Pad, 5.0 x 4.4 x 0.9mm Body, 14 Lead, 0.65mm Pitch; CompType: Switcher; RoHS: Y; PinCount: 14; DigiKeyPartNumber: LM2852YMXA-3.0-ND; Code_JEDEC: MO-153-ABT-1; ComponentLink1Description: LM2852 Datasheet; ComponentLink1URL: http://www.national.com/ds/LM/LM2852.pdf; ComponentLink2Description: LM2852 Web Page; ComponentLink2URL: http://www.national.com/pf/LM/LM2852.html; ComponentLink3Description: MXA14A Package Page; ComponentLink3URL: http://www.national.com/packaging/folders/mxa14a.html
footprint MXA14A_N (TSOP, 14-Leads, Body 5x4.4mm, Pitch 0.65mm, Exposed Pad, IPC Medium Density)
footprint MXA14A_L (TSOP, 14-Leads, Body 5x4.4mm, Pitch 0.65mm, Exposed Pad, IPC High Density)
footprint MXA14A_M (TSOP, 14-Leads, Body 5x4.4mm, Pitch 0.65mm, Exposed Pad, IPC Low Density)
pins: 1 AVIN (power), 2 EN, 3 SGND (power), 4 SS (in), 5 NC, 6 PVIN (power), 7 PVIN (power), 8 SW (power), 9 SW (power), 10 PGND (power), 11 PGND (power), 12 NC, 13 NC, 14 SNS (in), 15 Thermal Pad (power)

## LM2852YMXA-3.3
designator U?
2A 500/1500kHz Synchronous SIMPLE SWITCHER; Buck Regulator; PartNumber: LM2852YMXA-3.3; Manufacturer: National Semiconductor; PackageTopMarking: NSUZXYTT*2852Y*-3.3; Published: 4-Dec-2008; PackageVersion: revA, Feb-2003; PackageReference: MXA14A; Publisher: Altium Limited; PackageDescription: Molded TSSOP, JEDEC, Exposed Pad, 5.0 x 4.4 x 0.9mm Body, 14 Lead, 0.65mm Pitch; CompType: Switcher; RoHS: Y; PinCount: 14; DigiKeyPartNumber: LM2852YMXA-3.3-ND; Code_JEDEC: MO-153-ABT-1; ComponentLink1Description: LM2852 Datasheet; ComponentLink1URL: http://www.national.com/ds/LM/LM2852.pdf; ComponentLink2Description: LM2852 Web Page; ComponentLink2URL: http://www.national.com/pf/LM/LM2852.html; ComponentLink3Description: MXA14A Package Page; ComponentLink3URL: http://www.national.com/packaging/folders/mxa14a.html
footprint MXA14A_N (TSOP, 14-Leads, Body 5x4.4mm, Pitch 0.65mm, Exposed Pad, IPC Medium Density)
footprint MXA14A_L (TSOP, 14-Leads, Body 5x4.4mm, Pitch 0.65mm, Exposed Pad, IPC High Density)
footprint MXA14A_M (TSOP, 14-Leads, Body 5x4.4mm, Pitch 0.65mm, Exposed Pad, IPC Low Density)
pins: 1 AVIN (power), 2 EN, 3 SGND (power), 4 SS (in), 5 NC, 6 PVIN (power), 7 PVIN (power), 8 SW (power), 9 SW (power), 10 PGND (power), 11 PGND (power), 12 NC, 13 NC, 14 SNS (in), 15 Thermal Pad (power)

## LM2853MH-0.8
designator U?
3A 550 kHz Synchronous SIMPLE SWITCHER; Buck Regulator; PartNumber: LM2853MH-0.8; Manufacturer: National Semiconductor; PackageTopMarking: NSUZXYTT*LM2853*-0.8; Published: 4-Dec-2008; PackageVersion: revA, Feb-2003; PackageReference: MXA14A; Publisher: Altium Limited; PackageDescription: Molded TSSOP, JEDEC, Exposed Pad, 5.0 x 4.4 x 0.9mm Body, 14 Lead, 0.65mm Pitch; CompType: Switcher; RoHS: Y; PinCount: 14; DigiKeyPartNumber: LM2853MH-0.8-ND; Code_JEDEC: MO-153-ABT-1; ComponentLink1Description: LM2853 Datasheet; ComponentLink1URL: http://www.national.com/ds/LM/LM2853.pdf; ComponentLink2Description: LM2853 Web Page; ComponentLink2URL: http://www.national.com/pf/LM/LM2853.html; ComponentLink3Description: MXA14A Package Page; ComponentLink3URL: http://www.national.com/packaging/folders/mxa14a.html
footprint MXA14A_N (TSOP, 14-Leads, Body 5x4.4mm, Pitch 0.65mm, Exposed Pad, IPC Medium Density)
footprint MXA14A_L (TSOP, 14-Leads, Body 5x4.4mm, Pitch 0.65mm, Exposed Pad, IPC High Density)
footprint MXA14A_M (TSOP, 14-Leads, Body 5x4.4mm, Pitch 0.65mm, Exposed Pad, IPC Low Density)
pins: 1 AVIN (power), 2 EN (in), 3 SGND (power), 4 SS (in), 5 NC, 6 PVIN (power), 7 PVIN (power), 8 SW (power), 9 SW (power), 10 PGND (power), 11 PGND (power), 12 NC, 13 NC, 14 SNS (in), 15 DAP (power)

## LM2853MH-1.0
designator U?
3A 550 kHz Synchronous SIMPLE SWITCHER; Buck Regulator; PartNumber: LM2853MH-1.0; Manufacturer: National Semiconductor; PackageTopMarking: NSUZXYTT*LM2853*-1.0; Published: 4-Dec-2008; PackageVersion: revA, Feb-2003; PackageReference: MXA14A; Publisher: Altium Limited; PackageDescription: Molded TSSOP, JEDEC, Exposed Pad, 5.0 x 4.4 x 0.9mm Body, 14 Lead, 0.65mm Pitch; CompType: Switcher; RoHS: Y; PinCount: 14; DigiKeyPartNumber: LM2853MH-1.0-ND; Code_JEDEC: MO-153-ABT-1; ComponentLink1Description: LM2853 Datasheet; ComponentLink1URL: http://www.national.com/ds/LM/LM2853.pdf; ComponentLink2Description: LM2853 Web Page; ComponentLink2URL: http://www.national.com/pf/LM/LM2853.html; ComponentLink3Description: MXA14A Package Page; ComponentLink3URL: http://www.national.com/packaging/folders/mxa14a.html
footprint MXA14A_N (TSOP, 14-Leads, Body 5x4.4mm, Pitch 0.65mm, Exposed Pad, IPC Medium Density)
footprint MXA14A_L (TSOP, 14-Leads, Body 5x4.4mm, Pitch 0.65mm, Exposed Pad, IPC High Density)
footprint MXA14A_M (TSOP, 14-Leads, Body 5x4.4mm, Pitch 0.65mm, Exposed Pad, IPC Low Density)
pins: 1 AVIN (power), 2 EN (in), 3 SGND (power), 4 SS (in), 5 NC, 6 PVIN (power), 7 PVIN (power), 8 SW (power), 9 SW (power), 10 PGND (power), 11 PGND (power), 12 NC, 13 NC, 14 SNS (in), 15 DAP (power)

## LM2853MH-1.2
designator U?
3A 550 kHz Synchronous SIMPLE SWITCHER; Buck Regulator; PartNumber: LM2853MH-1.2; Manufacturer: National Semiconductor; PackageTopMarking: NSUZXYTT*LM2853*-1.2; Published: 4-Dec-2008; PackageVersion: revA, Feb-2003; PackageReference: MXA14A; Publisher: Altium Limited; PackageDescription: Molded TSSOP, JEDEC, Exposed Pad, 5.0 x 4.4 x 0.9mm Body, 14 Lead, 0.65mm Pitch; CompType: Switcher; RoHS: Y; PinCount: 14; DigiKeyPartNumber: LM2853MH-1.2-ND; Code_JEDEC: MO-153-ABT-1; ComponentLink1Description: LM2853 Datasheet; ComponentLink1URL: http://www.national.com/ds/LM/LM2853.pdf; ComponentLink2Description: LM2853 Web Page; ComponentLink2URL: http://www.national.com/pf/LM/LM2853.html; ComponentLink3Description: MXA14A Package Page; ComponentLink3URL: http://www.national.com/packaging/folders/mxa14a.html
footprint MXA14A_N (TSOP, 14-Leads, Body 5x4.4mm, Pitch 0.65mm, Exposed Pad, IPC Medium Density)
footprint MXA14A_L (TSOP, 14-Leads, Body 5x4.4mm, Pitch 0.65mm, Exposed Pad, IPC High Density)
footprint MXA14A_M (TSOP, 14-Leads, Body 5x4.4mm, Pitch 0.65mm, Exposed Pad, IPC Low Density)
pins: 1 AVIN (power), 2 EN (in), 3 SGND (power), 4 SS (in), 5 NC, 6 PVIN (power), 7 PVIN (power), 8 SW (power), 9 SW (power), 10 PGND (power), 11 PGND (power), 12 NC, 13 NC, 14 SNS (in), 15 DAP (power)

## LM2853MH-1.5
designator U?
3A 550 kHz Synchronous SIMPLE SWITCHER; Buck Regulator; PartNumber: LM2853MH-1.5; Manufacturer: National Semiconductor; PackageTopMarking: NSUZXYTT*LM2853*-1.5; Published: 4-Dec-2008; PackageVersion: revA, Feb-2003; PackageReference: MXA14A; Publisher: Altium Limited; PackageDescription: Molded TSSOP, JEDEC, Exposed Pad, 5.0 x 4.4 x 0.9mm Body, 14 Lead, 0.65mm Pitch; CompType: Switcher; RoHS: Y; PinCount: 14; DigiKeyPartNumber: LM2853MH-1.5-ND; Code_JEDEC: MO-153-ABT-1; ComponentLink1Description: LM2853 Datasheet; ComponentLink1URL: http://www.national.com/ds/LM/LM2853.pdf; ComponentLink2Description: LM2853 Web Page; ComponentLink2URL: http://www.national.com/pf/LM/LM2853.html; ComponentLink3Description: MXA14A Package Page; ComponentLink3URL: http://www.national.com/packaging/folders/mxa14a.html
footprint MXA14A_N (TSOP, 14-Leads, Body 5x4.4mm, Pitch 0.65mm, Exposed Pad, IPC Medium Density)
footprint MXA14A_L (TSOP, 14-Leads, Body 5x4.4mm, Pitch 0.65mm, Exposed Pad, IPC High Density)
footprint MXA14A_M (TSOP, 14-Leads, Body 5x4.4mm, Pitch 0.65mm, Exposed Pad, IPC Low Density)
pins: 1 AVIN (power), 2 EN (in), 3 SGND (power), 4 SS (in), 5 NC, 6 PVIN (power), 7 PVIN (power), 8 SW (power), 9 SW (power), 10 PGND (power), 11 PGND (power), 12 NC, 13 NC, 14 SNS (in), 15 DAP (power)

## LM2853MH-1.8
designator U?
3A 550 kHz Synchronous SIMPLE SWITCHER; Buck Regulator; PartNumber: LM2853MH-1.8; Manufacturer: National Semiconductor; PackageTopMarking: NSUZXYTT*LM2853*-1.8; Published: 4-Dec-2008; PackageVersion: revA, Feb-2003; PackageReference: MXA14A; Publisher: Altium Limited; PackageDescription: Molded TSSOP, JEDEC, Exposed Pad, 5.0 x 4.4 x 0.9mm Body, 14 Lead, 0.65mm Pitch; CompType: Switcher; RoHS: Y; PinCount: 14; DigiKeyPartNumber: LM2853MH-1.8-ND; Code_JEDEC: MO-153-ABT-1; ComponentLink1Description: LM2853 Datasheet; ComponentLink1URL: http://www.national.com/ds/LM/LM2853.pdf; ComponentLink2Description: LM2853 Web Page; ComponentLink2URL: http://www.national.com/pf/LM/LM2853.html; ComponentLink3Description: MXA14A Package Page; ComponentLink3URL: http://www.national.com/packaging/folders/mxa14a.html
footprint MXA14A_N (TSOP, 14-Leads, Body 5x4.4mm, Pitch 0.65mm, Exposed Pad, IPC Medium Density)
footprint MXA14A_L (TSOP, 14-Leads, Body 5x4.4mm, Pitch 0.65mm, Exposed Pad, IPC High Density)
footprint MXA14A_M (TSOP, 14-Leads, Body 5x4.4mm, Pitch 0.65mm, Exposed Pad, IPC Low Density)
pins: 1 AVIN (power), 2 EN (in), 3 SGND (power), 4 SS (in), 5 NC, 6 PVIN (power), 7 PVIN (power), 8 SW (power), 9 SW (power), 10 PGND (power), 11 PGND (power), 12 NC, 13 NC, 14 SNS (in), 15 DAP (power)

## LM2853MH-2.5
designator U?
3A 550 kHz Synchronous SIMPLE SWITCHER; Buck Regulator; PartNumber: LM2853MH-2.5; Manufacturer: National Semiconductor; PackageTopMarking: NSUZXYTT*LM2853*-2.5; Published: 4-Dec-2008; PackageVersion: revA, Feb-2003; PackageReference: MXA14A; Publisher: Altium Limited; PackageDescription: Molded TSSOP, JEDEC, Exposed Pad, 5.0 x 4.4 x 0.9mm Body, 14 Lead, 0.65mm Pitch; CompType: Switcher; RoHS: Y; PinCount: 14; DigiKeyPartNumber: LM2853MH-2.5-ND; Code_JEDEC: MO-153-ABT-1; ComponentLink1Description: LM2853 Datasheet; ComponentLink1URL: http://www.national.com/ds/LM/LM2853.pdf; ComponentLink2Description: LM2853 Web Page; ComponentLink2URL: http://www.national.com/pf/LM/LM2853.html; ComponentLink3Description: MXA14A Package Page; ComponentLink3URL: http://www.national.com/packaging/folders/mxa14a.html
footprint MXA14A_N (TSOP, 14-Leads, Body 5x4.4mm, Pitch 0.65mm, Exposed Pad, IPC Medium Density)
footprint MXA14A_L (TSOP, 14-Leads, Body 5x4.4mm, Pitch 0.65mm, Exposed Pad, IPC High Density)
footprint MXA14A_M (TSOP, 14-Leads, Body 5x4.4mm, Pitch 0.65mm, Exposed Pad, IPC Low Density)
pins: 1 AVIN (power), 2 EN (in), 3 SGND (power), 4 SS (in), 5 NC, 6 PVIN (power), 7 PVIN (power), 8 SW (power), 9 SW (power), 10 PGND (power), 11 PGND (power), 12 NC, 13 NC, 14 SNS (in), 15 DAP (power)

## LM2853MH-3.0
designator U?
3A 550 kHz Synchronous SIMPLE SWITCHER; Buck Regulator; PartNumber: LM2853MH-3.0; Manufacturer: National Semiconductor; PackageTopMarking: NSUZXYTT*LM2853*-3.0; Published: 4-Dec-2008; PackageVersion: revA, Feb-2003; PackageReference: MXA14A; Publisher: Altium Limited; PackageDescription: Molded TSSOP, JEDEC, Exposed Pad, 5.0 x 4.4 x 0.9mm Body, 14 Lead, 0.65mm Pitch; CompType: Switcher; RoHS: Y; PinCount: 14; DigiKeyPartNumber: LM2853MH-3.0-ND; Code_JEDEC: MO-153-ABT-1; ComponentLink1Description: LM2853 Datasheet; ComponentLink1URL: http://www.national.com/ds/LM/LM2853.pdf; ComponentLink2Description: LM2853 Web Page; ComponentLink2URL: http://www.national.com/pf/LM/LM2853.html; ComponentLink3Description: MXA14A Package Page; ComponentLink3URL: http://www.national.com/packaging/folders/mxa14a.html
footprint MXA14A_N (TSOP, 14-Leads, Body 5x4.4mm, Pitch 0.65mm, Exposed Pad, IPC Medium Density)
footprint MXA14A_L (TSOP, 14-Leads, Body 5x4.4mm, Pitch 0.65mm, Exposed Pad, IPC High Density)
footprint MXA14A_M (TSOP, 14-Leads, Body 5x4.4mm, Pitch 0.65mm, Exposed Pad, IPC Low Density)
pins: 1 AVIN (power), 2 EN (in), 3 SGND (power), 4 SS (in), 5 NC, 6 PVIN (power), 7 PVIN (power), 8 SW (power), 9 SW (power), 10 PGND (power), 11 PGND (power), 12 NC, 13 NC, 14 SNS (in), 15 DAP (power)

## LM2853MH-3.3
designator U?
3A 550 kHz Synchronous SIMPLE SWITCHER; Buck Regulator; PartNumber: LM2853MH-3.3; Manufacturer: National Semiconductor; PackageTopMarking: NSUZXYTT*LM2853*-3.3; Published: 4-Dec-2008; PackageVersion: revA, Feb-2003; PackageReference: MXA14A; Publisher: Altium Limited; PackageDescription: Molded TSSOP, JEDEC, Exposed Pad, 5.0 x 4.4 x 0.9mm Body, 14 Lead, 0.65mm Pitch; CompType: Switcher; RoHS: Y; PinCount: 14; DigiKeyPartNumber: LM2853MH-3.3-ND; Code_JEDEC: MO-153-ABT-1; ComponentLink1Description: LM2853 Datasheet; ComponentLink1URL: http://www.national.com/ds/LM/LM2853.pdf; ComponentLink2Description: LM2853 Web Page; ComponentLink2URL: http://www.national.com/pf/LM/LM2853.html; ComponentLink3Description: MXA14A Package Page; ComponentLink3URL: http://www.national.com/packaging/folders/mxa14a.html
footprint MXA14A_N (TSOP, 14-Leads, Body 5x4.4mm, Pitch 0.65mm, Exposed Pad, IPC Medium Density)
footprint MXA14A_L (TSOP, 14-Leads, Body 5x4.4mm, Pitch 0.65mm, Exposed Pad, IPC High Density)
footprint MXA14A_M (TSOP, 14-Leads, Body 5x4.4mm, Pitch 0.65mm, Exposed Pad, IPC Low Density)
pins: 1 AVIN (power), 2 EN (in), 3 SGND (power), 4 SS (in), 5 NC, 6 PVIN (power), 7 PVIN (power), 8 SW (power), 9 SW (power), 10 PGND (power), 11 PGND (power), 12 NC, 13 NC, 14 SNS (in), 15 DAP (power)

## LM2854MH-500
designator U?
4A 500 kHz / 1 MHz PowerWise Synchronous SIMPLE SWITCHER Buck Regulator; PartNumber: LM2854MH-500; Manufacturer: National Semiconductor; PackageTopMarking: NSUZXYTT*LM2854*-500; Published: 4-Dec-2008; PackageVersion: revA, Apr-2003; PackageReference: MXA16A; Publisher: Altium Limited; PackageDescription: Molded TSSOP, Jedec, Exposed Pad, 5.0 x 4.4 x 0.9mm Body,16 Lead, 0.65mm Pitch; CompType: Switcher; RoHS: Y; PinCount: 16; DigiKeyPartNumber: LM2854MH-500-ND; Code_JEDEC: MO-153-ABT; ComponentLink1Description: LM2854 Datasheet; ComponentLink1URL: http://www.national.com/ds/LM/LM2854.pdf; ComponentLink2Description: LM2854 Web Page; ComponentLink2URL: http://www.national.com/pf/LM/LM2854.html; ComponentLink3Description: MXA16A Package Drawing; ComponentLink3URL: http://www.national.com/packaging/folders/mxa16a.html
footprint MXA16A_N (TSOP, 16-Leads, Body 5x4.4mm, Pitch 0.65mm, Exposed Pad, IPC Medium Density)
footprint MXA16A_L (TSOP, 16-Leads, Body 5x4.4mm, Pitch 0.65mm, Exposed Pad, IPC High Density)
footprint MXA16A_M (TSOP, 16-Leads, Body 5x4.4mm, Pitch 0.65mm, Exposed Pad, IPC Low Density)
pins: 1 NC, 2 PGND (power), 3 PGND (power), 4 PGND (power), 5 PVIN (power), 6 PVIN (power), 7 PVIN (power), 8 NC, 9 NC, 10 AVIN (power), 11 EN (in), 12 SW (power), 13 SW (power), 14 SS, 15 AGND (power), 16 FB (in), 17 EP (power)

## LM2854MH-1000
designator U?
4A 500 kHz / 1 MHz PowerWise Synchronous SIMPLE SWITCHER Buck Regulator; PartNumber: LM2854MH-1000; Manufacturer: National Semiconductor; PackageTopMarking: NSUZXYTT*LM2854*-1000; Published: 4-Dec-2008; PackageVersion: revA, Apr-2003; PackageReference: MXA16A; Publisher: Altium Limited; PackageDescription: Molded TSSOP, Jedec, Exposed Pad, 5.0 x 4.4 x 0.9mm Body,16 Lead, 0.65mm Pitch; CompType: Switcher; RoHS: Y; PinCount: 16; DigiKeyPartNumber: LM2854MH-1000-ND; Code_JEDEC: MO-153-ABT; ComponentLink1Description: LM2854 Datasheet; ComponentLink1URL: http://www.national.com/ds/LM/LM2854.pdf; ComponentLink2Description: LM2854 Web Page; ComponentLink2URL: http://www.national.com/pf/LM/LM2854.html; ComponentLink3Description: MXA16A Package Drawing; ComponentLink3URL: http://www.national.com/packaging/folders/mxa16a.html
footprint MXA16A_N (TSOP, 16-Leads, Body 5x4.4mm, Pitch 0.65mm, Exposed Pad, IPC Medium Density)
footprint MXA16A_L (TSOP, 16-Leads, Body 5x4.4mm, Pitch 0.65mm, Exposed Pad, IPC High Density)
footprint MXA16A_M (TSOP, 16-Leads, Body 5x4.4mm, Pitch 0.65mm, Exposed Pad, IPC Low Density)
pins: 1 NC, 2 PGND (power), 3 PGND (power), 4 PGND (power), 5 PVIN (power), 6 PVIN (power), 7 PVIN (power), 8 NC, 9 NC, 10 AVIN (power), 11 EN (in), 12 SW (power), 13 SW (power), 14 SS, 15 AGND (power), 16 FB (in), 17 EP (power)

## LM3100MH
designator U?
Synchronous 1MHz 1.5A Step-Down Voltage  Regulator; PartNumber: LM3100MH; Manufacturer: National Semiconductor; CompType: Switcher; PackageTopMarking: NSUZXYTT*LM3100*MH; Published: 4-Dec-2008; PackageVersion: revC, Jul-2006; PackageReference: MXA20A; Publisher: Altium Limited; PackageDescription: Molded TSSOP, Jedec, 6.5 x 4.4 x 0.9mm Body, 20 Lead, 0.65mm Pitch, Exposed Pad; RoHS: Y; PinCount: 20; DigiKeyPartNumber: LM3100MH-ND; Code_JEDEC: MO-153-ACT; ComponentLink1Description: LM3100 Datasheet; ComponentLink1URL: http://www.national.com/ds/LM/LM3100.pdf; ComponentLink2Description: LM3100 Web Page; ComponentLink2URL: http://www.national.com/pf/LM/LM3100.html; ComponentLink3Description: MXA20A Package Page; ComponentLink3URL: http://www.national.com/packaging/folders/mxa20a.html
footprint MXA20A_N (TSOP, 20-Leads, Body 6.5x4.4mm, Pitch 0.65mm, Exposed Pad, IPC Medium Density)
footprint MXA20A_L (TSOP, 20-Leads, Body 6.5x4.4mm, Pitch 0.65mm, Exposed Pad, IPC High Density)
footprint MXA20A_M (TSOP, 20-Leads, Body 6.5x4.4mm, Pitch 0.65mm, Exposed Pad, IPC Low Density)
pins: 1 NC, 2 SW (power), 3 SW (power), 4 VIN (power), 5 VIN (power), 6 BST, 7 AGND (power), 8 SS (in), 9 NC, 10 NC, 11 TST (in), 12 NC, 13 FB (in), 14 EN (in), 15 RON (in), 16 VCC (power), 17 PGND (power), 18 PGND (power), 19 NC, 20 NC, 21 DAP (power)